# Altium footprint library MOLEX_0522070760.PcbLib: 1 footprints
Each footprint in its own frame and in the unit in brackets; x right, y up, seen from the top. Pads: shape width x height; smd on the part's side, far side on the other; paste and mask are expansions set on the pad; w line width, h text height; cw(c..) or ccw(c..) is an arc to the next point about the centre after c.
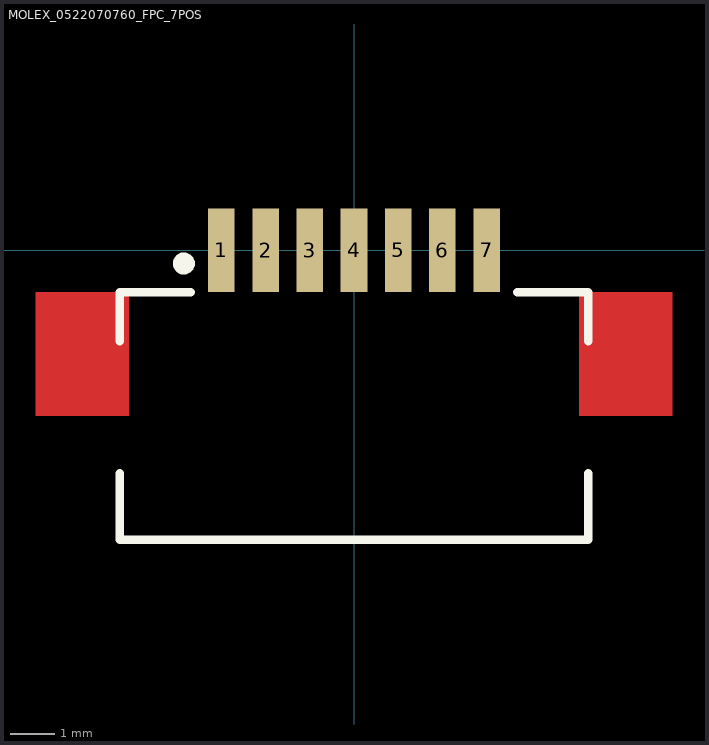
[diagram p0: the footprint, top view; thin cyan lines are the x and y axes]

## MOLEX_0522070760_FPC_7POS [mm] "MOLEX_0522070760_FPC_7POS"
pads (7):
  rect 0.6x1.9 smd: 1(-3,0) 2(-2,0) 3(-1,0) 4(0,0) 5(1,0) 6(2,0) 7(3,0)
Top Layer:
  region: -5.1,-0.95 -5.1,-3.75 -7.2,-3.75 -7.2,-0.95
  region: 5.1,-0.95 5.1,-3.75 7.2,-3.75 7.2,-0.95
Top Overlay:
  circle w0.25: c-3.85,-0.3 r0.125
  lines w0.2: -5.3,-5.05 -5.3,-6.55 5.3,-6.55 5.3,-5.05 ; -5.3,-2.05 -5.3,-0.95 -3.7,-0.95 ; 3.7,-0.95 5.3,-0.95 5.3,-2.05
Top Paste:
  region: -5.1,-0.95 -5.1,-3.75 -7.2,-3.75 -7.2,-0.95
  region: 5.1,-0.95 5.1,-3.75 7.2,-3.75 7.2,-0.95
Top Solder:
  region: -5.1,-0.95 -5.1,-3.75 -7.2,-3.75 -7.2,-0.95
  region: 5.1,-0.95 5.1,-3.75 7.2,-3.75 7.2,-0.95
3D body "522070760.stp": height 2.65, standoff -0.05, extent -6.65,-6.864 6.65,0.736